# EAGLE library part LT3790 (library teile)
Schaltregler synchron 4switch buck-boost 60V
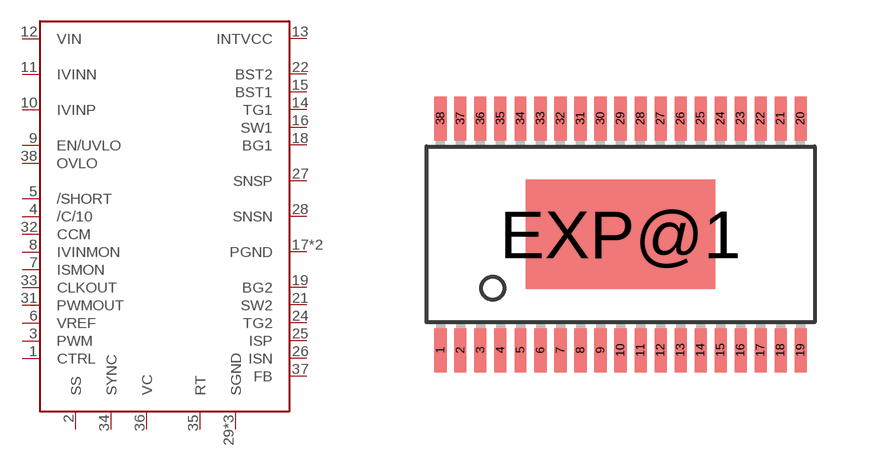
[diagram p0: symbol with the pads of HTSSOP38DCP; footprint HTSSOP38DCP]

Designator prefix -

## LT3790  [HTSSOP38DCP]
1  CTRL
2  SS
3  PWM
4  /C/10
5  /SHORT
6  VREF
7  ISMON
8  IVINMON
9  EN/UVLO
10  IVINP
11  IVINN
12  VIN
13  INTVCC
14  TG1
15  BST1
16  SW1
17  PGND
18  BG1
19  BG2
20  PGND
21  SW2
22  BST2
24  TG2
25  ISP
26  ISN
27  SNSP
28  SNSN
29  SGND
30  SGND
31  PWMOUT
32  CCM
33  CLKOUT
34  SYNC
35  RT
36  VC
37  FB
38  OVLO
EXP@1  SGND

## Footprint HTSSOP38DCP (pad centres in mm)
PowerPAD(TM) PLASTIC SMALL-OUTLINE PACKAGE DCP (R-PDSO-G**) Source: http://focus.ti.com/lit/ml/mpds041b/mpds041b.pdf / slma002.pdf
smd 0.3 x 1.1: 1 -4.5,-2.9; 2 -4,-2.9; 3 -3.5,-2.9; 4 -3,-2.9; 5 -2.5,-2.9; 6 -2,-2.9; 7 -1.5,-2.9; 8 -1,-2.9; 9 -0.5,-2.9; 10 0,-2.9; 11 0.5,-2.9; 12 1,-2.9; 13 1.5,-2.9; 14 2,-2.9; 15 2.5,-2.9; 16 3,-2.9; 17 3.5,-2.9; 18 4,-2.9; 19 4.5,-2.9; 20 4.5,2.9; 21 4,2.9; 22 3.5,2.9; 23 3,2.9; 24 2.5,2.9; 25 2,2.9; 26 1.5,2.9; 27 1,2.9; 28 0.5,2.9; 29 0,2.9; 30 -0.5,2.9; 31 -1,2.9; 32 -1.5,2.9; 33 -2,2.9; 34 -2.5,2.9; 35 -3,2.9; 36 -3.5,2.9; 37 -4,2.9; 38 -4.5,2.9
smd 4.75 x 2.743: EXP@1 0,0